# EAGLE library part PIC16F18425 (library ORBiT-IC-PlC)
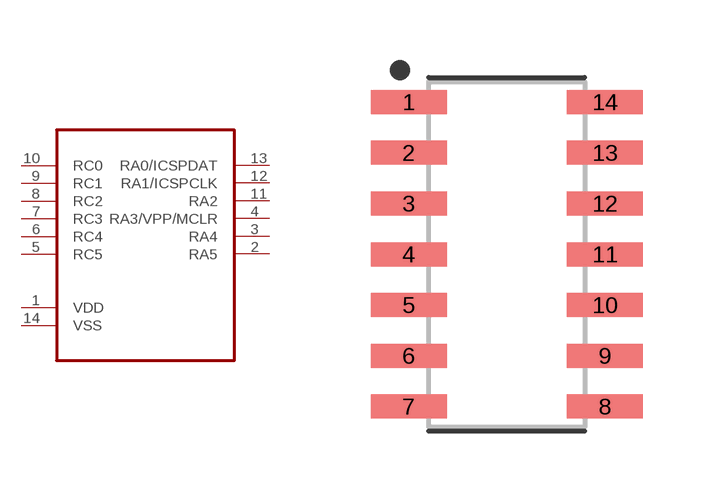
[diagram p4: symbol with the pads of 14-SOIC; footprint 14-SOIC]

Designator prefix -

## PIC16F18425  [14-SOIC]
1  VDD
2  RA5
3  RA4
4  RA3/VPP/MCLR
5  RC5
6  RC4
7  RC3
8  RC2
9  RC1
10  RC0
11  RA2
12  RA1/ICSPCLK
13  RA0/ICSPDAT
14  VSS

## Footprint 14-SOIC (pad centres in mm)
14-SOIC, 1.27 mm pitch, 6.00 mm span, 8.65 X 3.90 X 1.75 mm body 14-pin SOIC package with 1.27 mm pitch, 6.00 mm span with body size 8.65 X 3.90 X 1.75 mm
smd 1.901 x 0.599: 1 -2.455,3.81; 2 -2.455,2.54; 3 -2.455,1.27; 4 -2.455,0; 5 -2.455,-1.27; 6 -2.455,-2.54; 7 -2.455,-3.81; 8 2.455,-3.81; 9 2.455,-2.54; 10 2.455,-1.27; 11 2.455,0; 12 2.455,1.27; 13 2.455,2.54; 14 2.455,3.81